# EAGLE library part 74CBTLV3125PW-Q10J (library 74CBTLV3125PW-Q10J)
74CBTLV3125-Q100 - 4-bit bus switch@en-us Source: Datasheet <https://assets.nexperia.com/documents/data-sheet/74CBTLV3125_Q100.pdf>
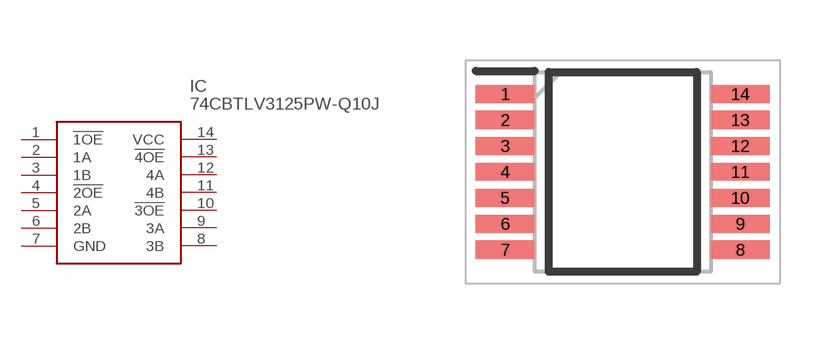
[diagram p0: symbol with the pads of SOP65P640X110-14N; footprint SOP65P640X110-14N]

Designator prefix IC

## 74CBTLV3125PW-Q10J (Arrow_Part_Number: 74CBTLV3125PW-Q10J; Description: 74CBTLV3125-Q100 - 4-bit bus switch@en-us; Height: 1.1mm; Manufacturer_Name: Nexperia; Manufacturer_Part_Number: 74CBTLV3125PW-Q10J; Mouser_Part_Number: 771-4CBTLV3125PWQ10J; Mouser_Price-Stock: https://www.mouser.co.uk/ProductDetail/Nexperia/74CBTLV3125PW-Q10J?qs=u4fy%2FsgLU9M1mUc3iUYoYA%3D%3D)  [SOP65P640X110-14N]
1  !1OE
2  1A
3  1B
4  !2OE
5  2A
6  2B
7  GND
8  3B
9  3A
10  !3OE
11  4B
12  4A
13  !4OE
14  VCC

## Footprint SOP65P640X110-14N (pad centres in mm)
SOT402-1
smd 1.475 x 0.45: 1 -2.938,1.95; 2 -2.938,1.3; 3 -2.938,0.65; 4 -2.938,0; 5 -2.938,-0.65; 6 -2.938,-1.3; 7 -2.938,-1.95; 8 2.938,-1.95; 9 2.938,-1.3; 10 2.938,-0.65; 11 2.938,0; 12 2.938,0.65; 13 2.938,1.3; 14 2.938,1.95